# Altium footprint library Tank.PcbLib: 288 footprints (part 15 of 18)
Each footprint in its own frame and in the unit in brackets; x right, y up, seen from the top. Pads: shape width x height; smd on the part's side, far side on the other; paste and mask are expansions set on the pad; w line width, h text height; cw(c..) or ccw(c..) is an arc to the next point about the centre after c.
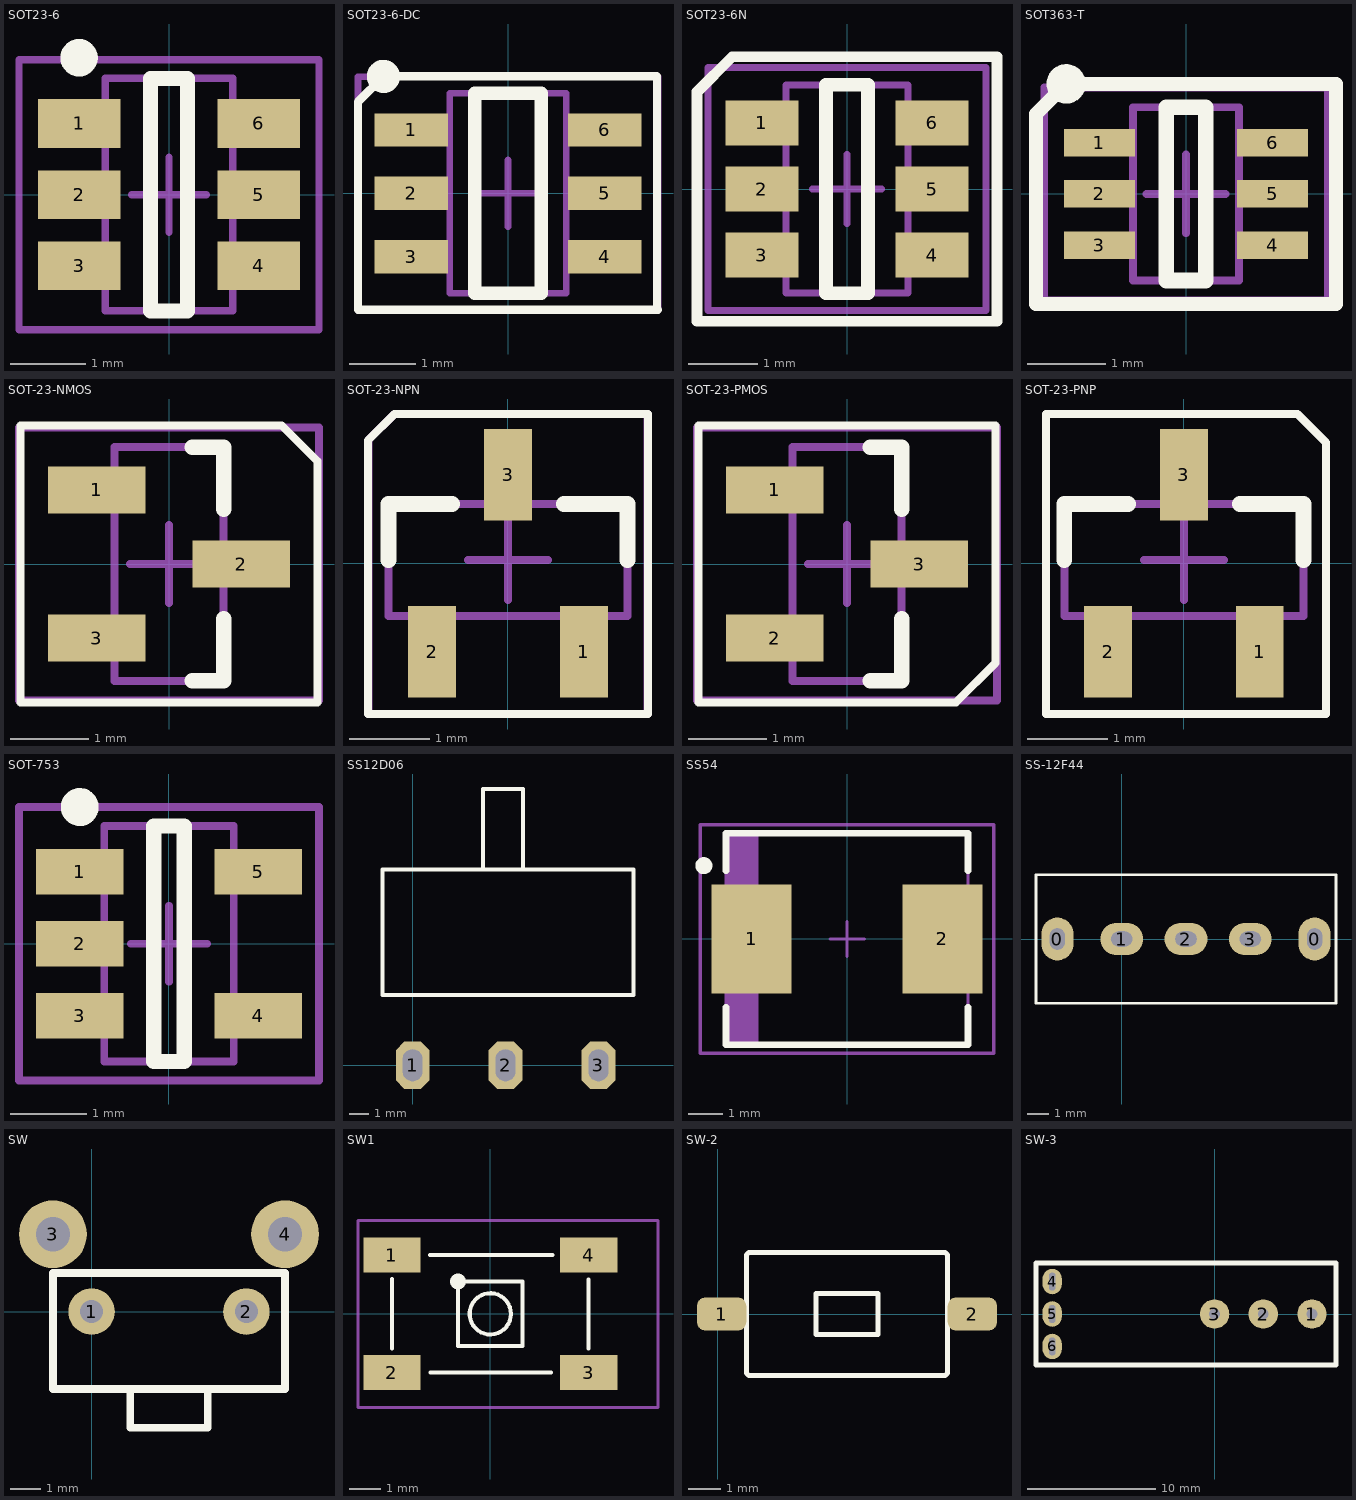
[diagram p14: the footprints below, top view; thin cyan lines are the x and y axes]

## SOT23-6 [mm]
height 1.1
pads (6):
  rect 1.1x0.65 smd: 1(-1.2,0.95) 2(-1.2,0) 3(-1.2,-0.95) 4(1.2,-0.95) 5(1.2,0) 6(1.2,0.95)
Top Overlay:
  circle w0.25: c-1.2,1.825 r0.125
  lines w0.2: -0.25,-1.55 -0.25,1.55 0.25,1.55 0.25,-1.55 -0.25,-1.55
Mechanical 13:
  lines w0.1: -0.85,-1.55 0.85,-1.55 0.85,1.55 -0.85,1.55 -0.85,-1.55
Mechanical 15:
  lines w0.1: -0.5,0 0.5,0 ; 0,-0.5 0,0.5 ; -2,-1.8 2,-1.8 2,1.8 -2,1.8 -2,-1.8
3D body: height 1.1, standoff 0, extent -0.85,-1.55 0.85,1.55

## SOT23-6-DC [mm] "SOT23, 6-Leads, Body 3.0x3.7mm (max), Pitch 0.95mm, IPC Medium Density"
height 1.1
pads (6):
  rect 1.1x0.5 smd: 1(-1.45,0.95) 2(-1.45,0) 3(-1.45,-0.95) 4(1.45,-0.95) 5(1.45,0) 6(1.45,0.95)
Top Overlay:
  circle w0.25: c-1.869,1.753 r0.125
  lines w0.127: -2.25,-1.75 -2.25,1.372 -1.869,1.753 2.233,1.753 2.235,1.75 2.235,-1.735 2.25,-1.75 -2.25,-1.75
  lines w0.2: -0.5,-1.5 0.5,-1.5 0.5,1.5 -0.5,1.5 -0.5,-1.5
Mechanical 13:
  lines w0.1: -0.875,-1.5 -0.875,1.5 0.875,1.5 0.875,-1.5 -0.875,-1.5
Mechanical 15:
  lines w0.1: -0.5,0 0.5,0 ; 0,-0.5 0,0.5 ; -2.25,-1.75 -2.25,1.75 2.25,1.75 2.25,-1.75 -2.25,-1.75
3D body: height 1.1, standoff 0.05, extent -0.875,-1.5 0.875,1.5

## SOT23-6N [mm]
height 1.1
pads (6):
  rect 1.05x0.65 smd: 1(-1.225,0.95) 2(-1.225,0) 3(-1.225,-0.95) 4(1.225,-0.95) 5(1.225,0) 6(1.225,0.95)
Top Overlay:
  lines w0.152: -2.159,-1.905 -2.159,1.397 -1.651,1.905 2.159,1.905 2.159,-1.905 -2.159,-1.905
  lines w0.2: -0.3,-1.5 -0.3,1.5 0.3,1.5 0.3,-1.5 -0.3,-1.5
Mechanical 13:
  lines w0.1: -0.875,-1.5 0.875,-1.5 0.875,1.5 -0.875,1.5 -0.875,-1.5
Mechanical 15:
  lines w0.1: -0.5,0 0.5,0 ; 0,-0.5 0,0.5 ; -2,-1.75 2,-1.75 2,1.75 -2,1.75 -2,-1.75
3D body: height 1.1, standoff 0.05, extent -0.875,-1.5 0.875,1.5

## SOT363-T [mm] "SOT23, 6-Leads, Body 2.2x2.6mm (max), Pitch 0.65mm, IPC Medium Density"
height 1.1
pads (6):
  rect 0.9x0.35 smd: 1(-1.1,0.65) 2(-1.1,0) 3(-1.1,-0.65) 4(1.1,-0.65) 5(1.1,0) 6(1.1,0.65)
Top Overlay:
  circle w0.25: c-1.522,1.397 r0.125
  lines w0.18: -1.905,-1.397 -1.905,1.016 -1.524,1.397 1.778,1.397 1.905,1.397 1.905,-1.397 -1.905,-1.397
  lines w0.2: -0.25,-1.1 -0.25,1.1 0.25,1.1 0.25,-1.1 -0.25,-1.1
Mechanical 13:
  lines w0.1: -0.675,-1.1 0.675,-1.1 0.675,1.1 -0.675,1.1 -0.675,-1.1
Mechanical 15:
  lines w0.1: -0.5,0 0.5,0 ; 0,-0.5 0,0.5 ; -1.8,-1.35 1.8,-1.35 1.8,1.35 -1.8,1.35 -1.8,-1.35
3D body: height 1.1, standoff 0.05, extent -0.675,-1.1 0.675,1.1

## SOT-23-NMOS [mm] "SOT23, 3-Leads, Body 3.0x2.6mm (max), Pitch 0.95mm, IPC Medium Density"
height 1.1
pads (3):
  rect 1.25x0.6 smd: 1(-0.925,0.95) 2(0.925,0) 3(-0.925,-0.95)
Top Overlay:
  lines w0.1: -1.905,-1.778 1.905,-1.778 1.905,1.321 1.448,1.778 -1.905,1.778 -1.905,-1.778
  lines w0.2: 0.3,-1.5 0.7,-1.5 0.7,-0.7 ; 0.3,1.5 0.7,1.5 0.7,0.7
Mechanical 13:
  lines w0.1: -0.7,-1.5 0.7,-1.5 0.7,1.5 -0.7,1.5 -0.7,-1.5
Mechanical 15:
  lines w0.1: -0.5,0 0.5,0 ; 0,-0.5 0,0.5 ; -1.925,-1.75 1.925,-1.75 1.925,1.75 -1.925,1.75 -1.925,-1.75
3D body: height 1.1, standoff 0.05, extent -0.7,-1.5 0.7,1.5

## SOT-23-NPN [mm]
pads (3):
  rect 0.6x1.143 smd: 1(0.95,-1.108) 2(-0.95,-1.108) 3(0,1.108)
Top Overlay:
  lines w0.1: -1.753,-1.889 1.753,-1.889 1.753,1.87 -1.422,1.87 -1.753,1.54 -1.753,-1.889
  lines w0.2: -1.5,0.042 -1.5,0.742 -0.7,0.742 ; 0.7,0.742 1.5,0.742 1.5,0.042
Mechanical 13:
  lines w0.1: -1.5,-0.658 -1.5,0.742 1.5,0.742 1.5,-0.658 -1.5,-0.658
Mechanical 15:
  lines w0.1: -0.5,0.042 0.5,0.042 ; 0,-0.458 0,0.542 ; -1.75,-1.889 -1.75,1.543 -1.422,1.87 1.75,1.87 1.75,-1.889 -1.75,-1.889
3D body: height 1.1, standoff 0, extent -1.5,-0.658 1.5,0.742

## SOT-23-PMOS [mm]
pads (3):
  rect 1.25x0.6 smd: 1(-0.925,0.95) 2(-0.925,-0.95) 3(0.925,0)
Top Overlay:
  lines w0.1: -1.905,-1.778 1.397,-1.778 1.905,-1.27 1.905,1.778 -1.905,1.778 -1.905,-1.778
  lines w0.2: 0.3,-1.5 0.7,-1.5 0.7,-0.7 ; 0.3,1.5 0.7,1.5 0.7,0.7
Mechanical 13:
  lines w0.1: -0.7,-1.5 0.7,-1.5 0.7,1.5 -0.7,1.5 -0.7,-1.5
Mechanical 15:
  lines w0.1: -0.5,0 0.5,0 ; 0,-0.5 0,0.5 ; -1.925,-1.75 1.925,-1.75 1.925,1.75 -1.925,1.75 -1.925,-1.75
3D body: height 1.1, standoff 0.05, extent -0.7,-1.5 0.7,1.5

## SOT-23-PNP [mm]
pads (3):
  rect 0.6x1.143 smd: 1(0.95,-1.108) 2(-0.95,-1.108) 3(0,1.108)
Top Overlay:
  lines w0.1: -1.727,-1.889 1.778,-1.889 1.778,1.515 1.422,1.87 -1.727,1.87 -1.727,-1.889
  lines w0.2: -1.5,0.042 -1.5,0.742 -0.7,0.742 ; 0.7,0.742 1.5,0.742 1.5,0.042
Mechanical 13:
  lines w0.1: -1.5,-0.658 -1.5,0.742 1.5,0.742 1.5,-0.658 -1.5,-0.658
Mechanical 15:
  lines w0.1: -0.5,0.042 0.5,0.042 ; 0,-0.458 0,0.542
3D body: height 1.1, standoff 0, extent -1.5,-0.658 1.5,0.742

## SOT-753 [mm]
height 1.1
pads (5):
  rect 1.15x0.6 smd: 1(-1.175,0.95) 2(-1.175,0) 3(-1.175,-0.95) 4(1.175,-0.95) 5(1.175,0.95)
Top Overlay:
  circle w0.25: c-1.175,1.8 r0.125
  lines w0.2: -0.2,-1.55 0.2,-1.55 0.2,1.55 -0.2,1.55 -0.2,-1.55
Mechanical 13:
  lines w0.1: -0.85,-1.55 -0.85,1.55 0.85,1.55 0.85,-1.55 -0.85,-1.55
Mechanical 15:
  lines w0.1: -0.5,0 0.5,0 ; 0,-0.5 0,0.5 ; -1.975,-1.8 -1.975,1.8 1.975,1.8 1.975,-1.8 -1.975,-1.8
3D body: height 1.1, standoff 0, extent -0.85,-1.55 0.85,1.55

## SS12D06 [mm]
pads (3):
  oct 1.7x2.4 hole 1 slot 1.6 at 90 deg: 1(0,0) 2(4.7,0) 3(9.4,0)
Top Overlay:
  lines w0.2: 3.556,9.906 3.556,13.97 5.588,13.97 5.588,9.906 ; -1.524,3.556 11.176,3.556 11.176,9.906 -1.524,9.906 -1.524,3.556

## SS54 [mm]
height 2.3
pads (2):
  rect 2.35x3.2 smd: 1(-2.8,0) 2(2.8,0)
Top Overlay:
  circle w0.25: c-4.2,2.15 r0.125
  lines w0.2: -3.55,-2 -3.55,-3.1 3.55,-3.1 3.55,-2 ; -3.55,2 -3.55,3.1 3.55,3.1 3.55,2
Mechanical 13:
  rectangle: -3.55,-3.1 -2.595,3.1
  lines w0.1: -3.55,-3.1 -3.55,3.1 3.55,3.1 3.55,-3.1 -3.55,-3.1
Mechanical 15:
  lines w0.1: -0.5,0 0.5,0 ; 0,-0.5 0,0.5 ; -4.3,-3.35 -4.3,3.35 4.3,3.35 4.3,-3.35 -4.3,-3.35
3D body: height 2.3, standoff 0, extent -3.55,-3.1 3.55,3.1

## SS-12F44 [mm]
pads (5):
  oval 1.5x2 hole 0.7 slot 1 at 90 deg: 0(-3,0) 0(9,0)
  oval 2x1.5 hole 0.7 slot 1 at 0 deg: 1(0,0) 2(3,0) 3(6,0)
Top Overlay:
  lines w0.127: -4,-3 -4,0 -4,3 10,3 10,-3 -4,-3

## SW [mil]
pads (4):
  round 60 hole 30: 1(0,0) 2(200,0)
  round 87.56 hole 44.17: 3(-50,100) 4(250,100)
Top Overlay:
  lines w10: 50,-100 50,-150 150,-150 150,-100 ; -50,-100 250,-100 250,50 -50,50 -50,-100

## SW1 [mm]
height 0.8
pads (4):
  rect 1.8x1.1 smd: 1(-3.1,1.85) 2(-3.1,-1.85) 3(3.1,-1.85) 4(3.1,1.85)
Top Overlay:
  circle w0.127: c0,0 r0.65
  lines w0.127: -3.1,-1.091 -3.1,1.091 ; -1.905,1.85 1.96,1.85 ; -1.89,-1.85 1.905,-1.85 ; 3.1,-1.091 3.1,1.08 ; -1.016,-1.016 -1.016,1.016 1.016,1.016 1.016,-1.016 -1.016,-1.016
  lines w0.5: -1.016,1.016 ccw(c-1.016,1.016) -1.016,1.016
Mechanical 15:
  lines w0.1: -4.167,-2.954 -4.167,2.946 5.283,2.946 5.283,-2.954 -4.167,-2.954

## SW-2 [mil]
pads (2):
  rrect50% 60x40 smd: 1(5,0) 2(310,0)
Top Overlay:
  lines w6: 35,-70 ccw(c40,-70) 40,-75 275,-75 ccw(c275,-70) 280,-70 280,70 ccw(c275,70) 275,75 40,75 ccw(c40,70) 35,70 35,-70 ; 120,-25 195,-25 195,25 120,25 120,-25

## SW-3 [mm]
pads (6):
  round 2.3 hole 0.85: 1(7.62,0) 2(3.81,0) 3(0,0)
  oval 1.5x2 hole 0.5 slot 1.4 at 90 deg: 4(-12.7,2.54) 5(-12.7,0) 6(-12.7,-2.54)
Top Overlay:
  lines w0.381: -13.97,-4 -13.97,4 ; -13.86,-4 9.5,-4 9.5,4 -13.86,4